# EAGLE library part HCPL2630 (library Eagle CMR)
Dual Channel High speed optocoupler
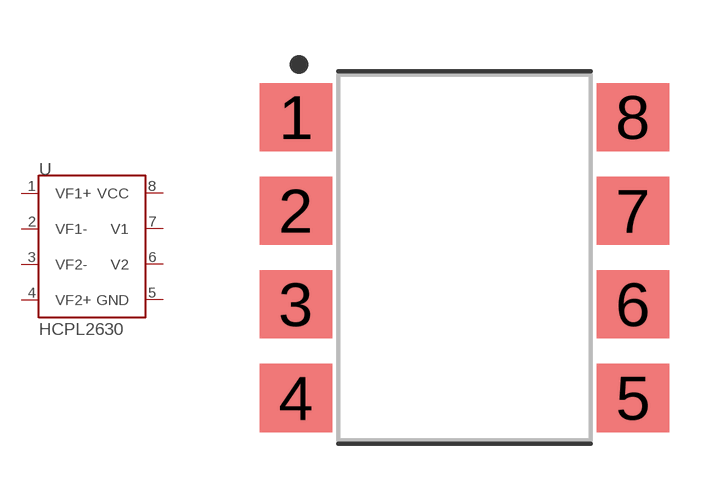
[diagram p6: symbol with the pads of SOP254P1030X508-8N; footprint SOP254P1030X508-8N]

Designator prefix U

## HCPL2630 (DIGI-KEY#: HCPL2630SDCT-ND; DIGI-KEY_LINK: https://www.digikey.com/en/products/detail/on-semiconductor/HCPL2630SD/401362; LCSC#: C46037; LCSC_LINK: https://lcsc.com/product-detail/Optocouplers_ON-Semiconductor-HCPL2630SD_C46037.html; MANUFACTURER: ON Semiconductor; MFR#: HCPL2630SD; PACKAGE: SMD-8)  [SOP254P1030X508-8N]
1  VF1+  pas
2  VF1-  pas
3  VF2-  pas
4  VF2+  pas
5  GND  pwr
6  V2  pas
7  V1  pas
8  VCC  pwr

## Footprint SOP254P1030X508-8N (pad centres in mm)
8-SOP, 2.54 mm pitch, 10.30 mm span, 9.65 X 6.61 X 5.08 mm body 8-pin SOP package with 2.54 mm pitch, 10.30 mm span with body size 9.65 X 6.61 X 5.08 mm
smd 1.962 x 1.85: 1 -4.575,3.81; 2 -4.575,1.27; 3 -4.575,-1.27; 4 -4.575,-3.81; 5 4.575,-3.81; 6 4.575,-1.27; 7 4.575,1.27; 8 4.575,3.81